# Altium schematic symbol library 2.9 - STM32 L0系列单片机.SCHLIB: 3 symbols
Pins are listed as number, name and electrical type; pins without a type are passive.

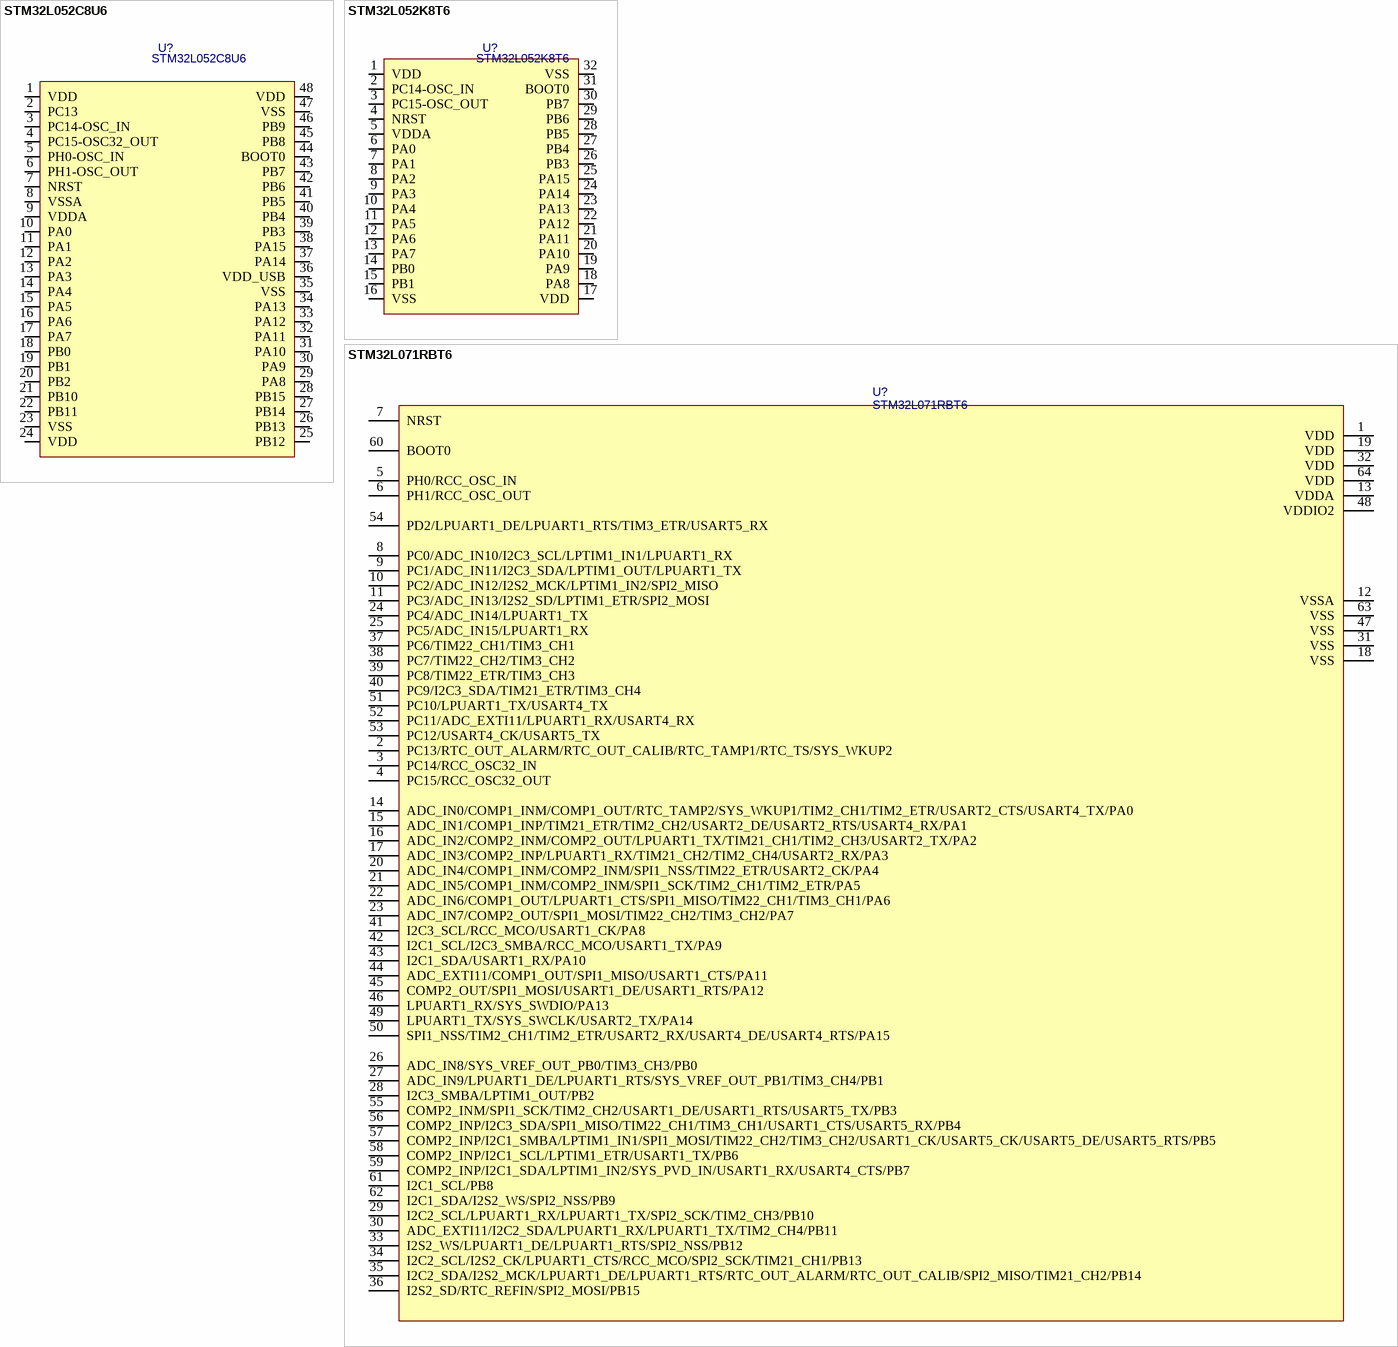
[diagram p0: symbols STM32L052C8U6 to STM32L071RBT6]

## STM32L052C8U6
designator U?
1.库作者: 冰凌猫; 2.库版本: v2.0 (2021.03.30); 3.交流分享: Q群514746572,开源更新,欢迎一起交流学习PCB设计; 4.作者声明: 旨为整合最全库集,欢迎转载,禁止商用！-冰凌猫; 5.备注说明: 该库已二次整合过网上各热销库,基本最全,无需重复搜购安装
footprint UFQFPN48_N (QFN, 48-Leads, Body 7x7mm, Pitch 0.5mm, Thermal Pad 5.6x5.6mm, IPC Medium Density)
pins: 1 VDD, 2 PC13, 3 PC14-OSC_IN, 4 PC15-OSC32_OUT, 5 PH0-OSC_IN, 6 PH1-OSC_OUT, 7 NRST, 8 VSSA, 9 VDDA, 10 PA0, 11 PA1, 12 PA2, 13 PA3, 14 PA4, 15 PA5, 16 PA6, 17 PA7, 18 PB0, 19 PB1, 20 PB2, 21 PB10, 22 PB11, 23 VSS, 24 VDD, 25 PB12, 26 PB13, 27 PB14, 28 PB15, 29 PA8, 30 PA9, 31 PA10, 32 PA11, 33 PA12, 34 PA13, 35 VSS, 36 VDD_USB, 37 PA14, 38 PA15, 39 PB3, 40 PB4, 41 PB5, 42 PB6, 43 PB7, 44 BOOT0, 45 PB8, 46 PB9, 47 VSS, 48 VDD

## STM32L052K8T6
designator U?
1.库作者: 冰凌猫; 2.库版本: v2.0 (2021.03.30); 3.交流分享: Q群514746572,开源更新,欢迎一起交流学习PCB设计; 4.作者声明: 旨为整合最全库集,欢迎转载,禁止商用！-冰凌猫; 5.备注说明: 该库已二次整合过网上各热销库,基本最全,无需重复搜购安装
footprint LQFP32 7X7_N (32脚，体宽7x7mm，脚距0.8mm)
pins: 1 VDD, 2 PC14-OSC_IN, 3 PC15-OSC_OUT, 4 NRST, 5 VDDA, 6 PA0, 7 PA1, 8 PA2, 9 PA3, 10 PA4, 11 PA5, 12 PA6, 13 PA7, 14 PB0, 15 PB1, 16 VSS, 17 VDD, 18 PA8, 19 PA9, 20 PA10, 21 PA11, 22 PA12, 23 PA13, 24 PA14, 25 PA15, 26 PB3, 27 PB4, 28 PB5, 29 PB6, 30 PB7, 31 BOOT0, 32 VSS

## STM32L071RBT6
designator U?
1.库作者: 冰凌猫; 2.库版本: v2.0 (2021.03.30); 3.交流分享: Q群514746572,开源更新,欢迎一起交流学习PCB设计; 4.作者声明: 旨为整合最全库集,欢迎转载,禁止商用！-冰凌猫; 5.备注说明: 该库已二次整合过网上各热销库,基本最全,无需重复搜购安装
footprint LQFP64_L (Thin QFP, 64-Leads, Body 10x10mm, Pitch 0.5mm, IPC High Density)
pins: 1 VDD, 2 PC13/RTC_OUT_ALARM/RTC_OUT_CALIB/RTC_TAMP1/RTC_TS/SYS_WKUP2, 3 PC14/RCC_OSC32_IN, 4 PC15/RCC_OSC32_OUT, 5 PH0/RCC_OSC_IN, 6 PH1/RCC_OSC_OUT, 7 NRST, 8 PC0/ADC_IN10/I2C3_SCL/LPTIM1_IN1/LPUART1_RX, 9 PC1/ADC_IN11/I2C3_SDA/LPTIM1_OUT/LPUART1_TX, 10 PC2/ADC_IN12/I2S2_MCK/LPTIM1_IN2/SPI2_MISO, 11 PC3/ADC_IN13/I2S2_SD/LPTIM1_ETR/SPI2_MOSI, 12 VSSA, 13 VDDA, 14 ADC_IN0/COMP1_INM/COMP1_OUT/RTC_TAMP2/SYS_WKUP1/TIM2_CH1/TIM2_ETR/USART2_CTS/USART4_TX/PA0, 15 ADC_IN1/COMP1_INP/TIM21_ETR/TIM2_CH2/USART2_DE/USART2_RTS/USART4_RX/PA1, 16 ADC_IN2/COMP2_INM/COMP2_OUT/LPUART1_TX/TIM21_CH1/TIM2_CH3/USART2_TX/PA2, 17 ADC_IN3/COMP2_INP/LPUART1_RX/TIM21_CH2/TIM2_CH4/USART2_RX/PA3, 18 VSS, 19 VDD, 20 ADC_IN4/COMP1_INM/COMP2_INM/SPI1_NSS/TIM22_ETR/USART2_CK/PA4, 21 ADC_IN5/COMP1_INM/COMP2_INM/SPI1_SCK/TIM2_CH1/TIM2_ETR/PA5, 22 ADC_IN6/COMP1_OUT/LPUART1_CTS/SPI1_MISO/TIM22_CH1/TIM3_CH1/PA6, 23 ADC_IN7/COMP2_OUT/SPI1_MOSI/TIM22_CH2/TIM3_CH2/PA7, 24 PC4/ADC_IN14/LPUART1_TX, 25 PC5/ADC_IN15/LPUART1_RX, 26 ADC_IN8/SYS_VREF_OUT_PB0/TIM3_CH3/PB0, 27 ADC_IN9/LPUART1_DE/LPUART1_RTS/SYS_VREF_OUT_PB1/TIM3_CH4/PB1, 28 I2C3_SMBA/LPTIM1_OUT/PB2, 29 I2C2_SCL/LPUART1_RX/LPUART1_TX/SPI2_SCK/TIM2_CH3/PB10, 30 ADC_EXTI11/I2C2_SDA/LPUART1_RX/LPUART1_TX/TIM2_CH4/PB11, 31 VSS, 32 VDD, 33 I2S2_WS/LPUART1_DE/LPUART1_RTS/SPI2_NSS/PB12, 34 I2C2_SCL/I2S2_CK/LPUART1_CTS/RCC_MCO/SPI2_SCK/TIM21_CH1/PB13, 35 I2C2_SDA/I2S2_MCK/LPUART1_DE/LPUART1_RTS/RTC_OUT_ALARM/RTC_OUT_CALIB/SPI2_MISO/TIM21_CH2/PB14, 36 I2S2_SD/RTC_REFIN/SPI2_MOSI/PB15, 37 PC6/TIM22_CH1/TIM3_CH1, 38 PC7/TIM22_CH2/TIM3_CH2, 39 PC8/TIM22_ETR/TIM3_CH3, 40 PC9/I2C3_SDA/TIM21_ETR/TIM3_CH4, 41 I2C3_SCL/RCC_MCO/USART1_CK/PA8, 42 I2C1_SCL/I2C3_SMBA/RCC_MCO/USART1_TX/PA9, 43 I2C1_SDA/USART1_RX/PA10, 44 ADC_EXTI11/COMP1_OUT/SPI1_MISO/USART1_CTS/PA11, 45 COMP2_OUT/SPI1_MOSI/USART1_DE/USART1_RTS/PA12, 46 LPUART1_RX/SYS_SWDIO/PA13, 47 VSS, 48 VDDIO2, 49 LPUART1_TX/SYS_SWCLK/USART2_TX/PA14, 50 SPI1_NSS/TIM2_CH1/TIM2_ETR/USART2_RX/USART4_DE/USART4_RTS/PA15, 51 PC10/LPUART1_TX/USART4_TX, 52 PC11/ADC_EXTI11/LPUART1_RX/USART4_RX, 53 PC12/USART4_CK/USART5_TX, 54 PD2/LPUART1_DE/LPUART1_RTS/TIM3_ETR/USART5_RX, 55 COMP2_INM/SPI1_SCK/TIM2_CH2/USART1_DE/USART1_RTS/USART5_TX/PB3, 56 COMP2_INP/I2C3_SDA/SPI1_MISO/TIM22_CH1/TIM3_CH1/USART1_CTS/USART5_RX/PB4, 57 COMP2_INP/I2C1_SMBA/LPTIM1_IN1/SPI1_MOSI/TIM22_CH2/TIM3_CH2/USART1_CK/USART5_CK/USART5_DE/USART5_RTS/PB5, 58 COMP2_INP/I2C1_SCL/LPTIM1_ETR/USART1_TX/PB6, 59 COMP2_INP/I2C1_SDA/LPTIM1_IN2/SYS_PVD_IN/USART1_RX/USART4_CTS/PB7, 60 BOOT0, 61 I2C1_SCL/PB8, 62 I2C1_SDA/I2S2_WS/SPI2_NSS/PB9, 63 VSS, 64 VDD